# EAGLE library part USB (library daqcs_host)
Description: 5 Pin USB Connectors. SLD is the shield connection. Usually tied to ground through a small ferrite bead.
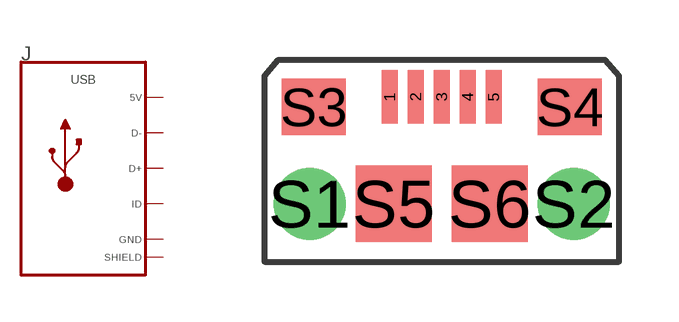
[diagram p6: symbol with the pads of MICROUSB-RIGHT; footprint MICROUSB-RIGHT]

Designator prefix J

## USB_B_MICRO_RIGHT (CONTACTS: 5; MANUFACTURER: Amphenol; MANUFACTURER_PN: 10118193-0001LF; MOUNT_ANGLE: RIGHT; MOUNT_TYPE: TH/SMD; VALUE: USB_MICROB_RECPT; VENDOR: Digi-key; VENDOR_PN: 609-4616-1-ND)  [MICROUSB-RIGHT]
1  5V  pwr
2  D-
3  D+
4  ID
5  GND  pwr
S1  SLD  pwr
S2  SLD  pwr
S3  SLD  pwr
S4  SLD  pwr
S5  SLD  pwr
S6  SLD  pwr

## Footprint MICROUSB-RIGHT (pad centres in mm)
Description: Package for Micro USB Type B connector. Based on FCI 10118193-0001LF.
smd 0.4 x 1.35: 1 -1.3,2.675; 2 -0.65,2.675; 3 0,2.675; 4 0.65,2.675; 5 1.3,2.675
drill 1.2 pad 1.6: S1 -3.3,0; S2 3.3,0
smd 1.6 x 1.4: S3 -3.2,2.425; S4 3.2,2.425
smd 1.9 x 1.9: S5 -1.2,0; S6 1.2,0